# Altium footprint library Caps.TH.PcbLib: 50 footprints (part 1 of 4)
Each footprint in its own frame and in the unit in brackets; x right, y up, seen from the top. Pads: shape width x height; smd on the part's side, far side on the other; paste and mask are expansions set on the pad; w line width, h text height; cw(c..) or ccw(c..) is an arc to the next point about the centre after c.
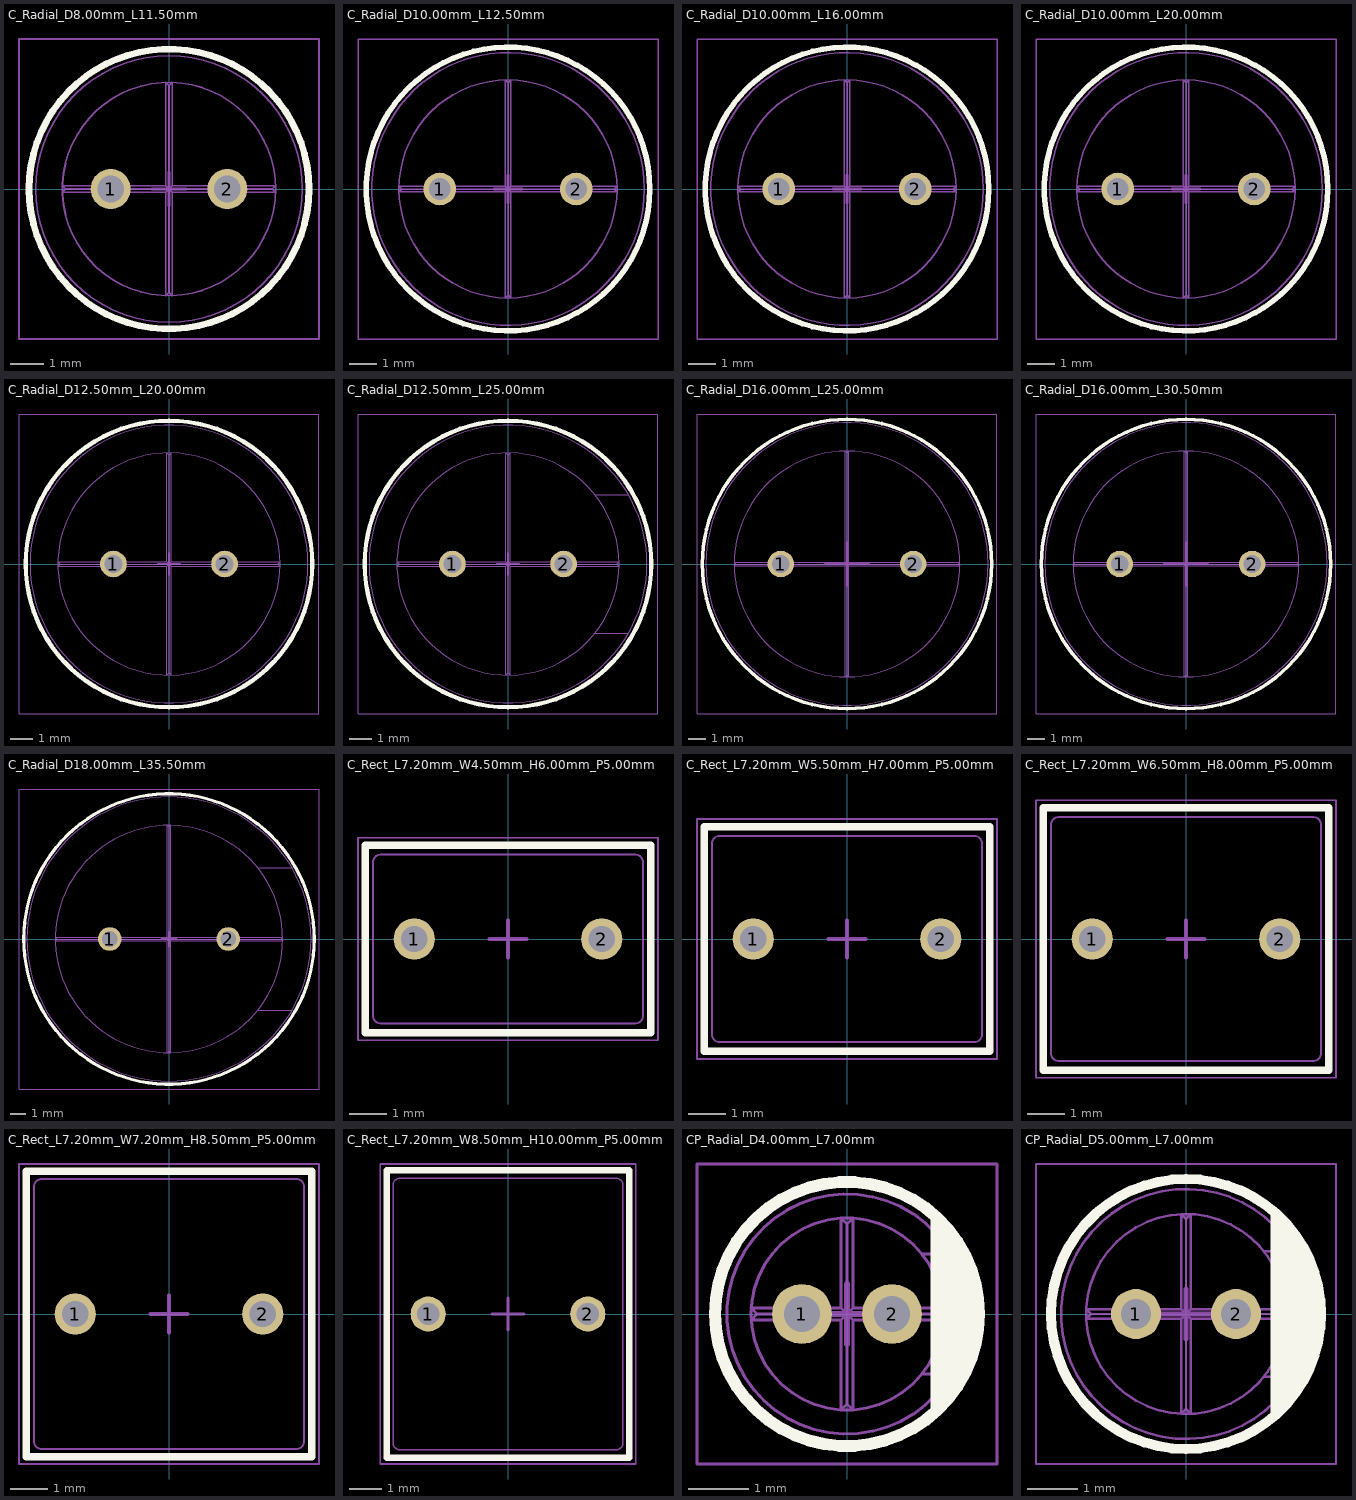
[diagram p0: the footprints below, top view; thin cyan lines are the x and y axes]

## C_Radial_D8.00mm_L11.50mm [mm] "Radial Capacitor, Diameter 8.00mm, Length 11.50mm, Pitch 3.50mm"
height 11.5
pads (2):
  round 1.2 hole 0.8: 1(-1.75,0) 2(1.75,0)
Top Overlay:
  circle w0.2: c0,0 r4.2
Mechanical 1:
  circle w0.05: c0,0 r4
  circle w0.05: c0,0 r3.2
  lines w0.05: -3.1,0 3.1,0 ; -3.1,0 -3.198,0.1 -0.1,0.1 ; -3.1,0 -3.198,-0.1 -0.1,-0.1 ; -0.1,-0.1 0.1,0.1 ; -0.1,-0.1 -0.1,-3.198 0,-3.1 ; -0.1,0.1 -0.1,3.198 0,3.1 ; -0.1,0.1 0.1,-0.1 ; 0,-3.1 0,3.1 ; 0,-3.1 0.1,-3.198 0.1,-0.1 ; 0,3.1 0.1,3.198 0.1,0.1 ; 0.1,-0.1 3.198,-0.1 3.1,0 ; 0.1,0.1 3.198,0.1 3.1,0
Mechanical 15:
  lines w0.05: -4.5,-4.5 -4.5,4.5 4.5,4.5 4.5,-4.5 -4.5,-4.5
  lines w0.1: -0.5,0 0.5,0 ; 0,-0.5 0,0.5
3D body "Capacitor_Unpolarised_Radial_D8.00mm_L11.50mm_P3.5mm.STEP": height 11.5, standoff -3.2, extent -4,-4 4,4

## C_Radial_D10.00mm_L12.50mm [mm] "Radial Capacitor, Diameter 10.00mm, Length 12.50mm, Pitch 5.00mm"
height 12.5
pads (2):
  round 1.2 hole 0.8: 1(-2.5,0) 2(2.5,0)
Top Overlay:
  circle w0.2: c0,0 r5.2
Mechanical 1:
  circle w0.05: c0,0 r5
  circle w0.05: c0,0 r4
  lines w0.05: -3.9,0 3.9,0 ; -3.9,0 -3.999,0.1 -0.1,0.1 ; -3.9,0 -3.999,-0.1 -0.1,-0.1 ; -0.1,-0.1 0.1,0.1 ; -0.1,-0.1 -0.1,-3.999 0,-3.9 ; -0.1,0.1 -0.1,3.999 0,3.9 ; -0.1,0.1 0.1,-0.1 ; 0,-3.9 0,3.9 ; 0,-3.9 0.1,-3.999 0.1,-0.1 ; 0,3.9 0.1,3.999 0.1,0.1 ; 0.1,-0.1 3.999,-0.1 3.9,0 ; 0.1,0.1 3.999,0.1 3.9,0
Mechanical 15:
  lines w0.05: -5.5,-5.5 -5.5,5.5 5.5,5.5 5.5,-5.5 -5.5,-5.5
  lines w0.1: -0.5,0 0.5,0 ; 0,-0.5 0,0.5
3D body "Capacitor_Unpolarised_Radial_D10.00mm_L12.50mm_P5.0mm.STEP": height 12.5, standoff -3.2, extent -4.994,-5 4.994,5

## C_Radial_D10.00mm_L16.00mm [mm] "Radial Capacitor, Diameter 10.00mm, Length 16.00mm, Pitch 5.00mm"
height 16
pads (2):
  round 1.2 hole 0.8: 1(-2.5,0) 2(2.5,0)
Top Overlay:
  circle w0.2: c0,0 r5.2
Mechanical 1:
  circle w0.05: c0,0 r5
  circle w0.05: c0,0 r4
  lines w0.05: -3.9,0 3.9,0 ; -3.9,0 -3.999,0.1 -0.1,0.1 ; -3.9,0 -3.999,-0.1 -0.1,-0.1 ; -0.1,-0.1 0.1,0.1 ; -0.1,-0.1 -0.1,-3.999 0,-3.9 ; -0.1,0.1 -0.1,3.999 0,3.9 ; -0.1,0.1 0.1,-0.1 ; 0,-3.9 0,3.9 ; 0,-3.9 0.1,-3.999 0.1,-0.1 ; 0,3.9 0.1,3.999 0.1,0.1 ; 0.1,-0.1 3.999,-0.1 3.9,0 ; 0.1,0.1 3.999,0.1 3.9,0
Mechanical 15:
  lines w0.05: -5.5,-5.5 -5.5,5.5 5.5,5.5 5.5,-5.5 -5.5,-5.5
  lines w0.1: -0.5,0 0.5,0 ; 0,-0.5 0,0.5
3D body "Capacitor_Unpolarised_Radial_D10.00mm_L16.00mm_P5.0mm.STEP": height 16, standoff -3.2, extent -4.994,-5 4.994,5

## C_Radial_D10.00mm_L20.00mm [mm] "Radial Capacitor, Diameter 10.00mm, Length 20.00mm, Pitch 5.00mm"
height 20
pads (2):
  round 1.2 hole 0.8: 1(-2.5,0) 2(2.5,0)
Top Overlay:
  circle w0.2: c0,0 r5.2
Mechanical 1:
  circle w0.05: c0,0 r4
  circle w0.05: c0,0 r5
  lines w0.05: -3.9,0 -3.999,-0.1 -0.1,-0.1 ; -3.9,0 -3.999,0.1 -0.1,0.1 ; -3.9,0 3.9,0 ; -0.1,-0.1 -0.1,-3.999 0,-3.9 ; -0.1,-0.1 0.1,0.1 ; -0.1,0.1 0.1,-0.1 ; -0.1,0.1 -0.1,3.999 0,3.9 ; 0,-3.9 0.1,-3.999 0.1,-0.1 ; 0,-3.9 0,3.9 ; 0,3.9 0.1,3.999 0.1,0.1 ; 0.1,-0.1 3.999,-0.1 3.9,0 ; 0.1,0.1 3.999,0.1 3.9,0
Mechanical 15:
  lines w0.05: -5.5,-5.5 5.5,-5.5 5.5,5.5 -5.5,5.5 -5.5,-5.5
  lines w0.1: -0.5,0 0.5,0 ; 0,-0.5 0,0.5
3D body "Capacitor_Unpolarised_Radial_D10.00mm_L20.00mm_P5.0mm.STEP": height 20, standoff -3.2, extent -4.994,-5 4.994,5

## C_Radial_D12.50mm_L20.00mm [mm] "Radial Capacitor, Diameter 12.50mm, Length 20.00mm, Pitch 5.00mm"
height 20
pads (2):
  round 1.2 hole 0.8: 1(-2.5,0) 2(2.5,0)
Top Overlay:
  circle w0.2: c0,0 r6.45
Mechanical 1:
  circle w0.05: c0,0 r6.25
  circle w0.05: c0,0 r5
  lines w0.05: -4.9,0 4.9,0 ; -4.9,0 -4.999,0.1 -0.1,0.1 ; -4.9,0 -4.999,-0.1 -0.1,-0.1 ; -0.1,-0.1 0.1,0.1 ; -0.1,-0.1 -0.1,-4.999 0,-4.9 ; -0.1,0.1 -0.1,4.999 0,4.9 ; -0.1,0.1 0.1,-0.1 ; 0,-4.9 0,4.9 ; 0,-4.9 0.1,-4.999 0.1,-0.1 ; 0,4.9 0.1,4.999 0.1,0.1 ; 0.1,-0.1 4.999,-0.1 4.9,0 ; 0.1,0.1 4.999,0.1 4.9,0
Mechanical 15:
  lines w0.05: -6.75,-6.75 6.75,-6.75 6.75,6.75 -6.75,6.75 -6.75,-6.75
  lines w0.1: -0.5,0 0.5,0 ; 0,-0.5 0,0.5
3D body "Capacitor_Unpolarised_Radial_D12.50mm_L20.00mm_P5.0mm.STEP": height 20, standoff -3.2, extent -6.238,-6.25 6.238,6.25

## C_Radial_D12.50mm_L25.00mm [mm] "Radial Capacitor, Diameter 12.50mm, Length 25.00mm, Pitch 5.00mm"
height 25
pads (2):
  round 1.2 hole 0.8: 1(-2.5,0) 2(2.5,0)
Top Overlay:
  circle w0.2: c0,0 r6.45
Mechanical 1:
  circle w0.05: c0,0 r6.25
  circle w0.05: c0,0 r5
  lines w0.05: 3.903,-3.125 5.049,-3.125 5.413,-3.125 ; 3.903,3.125 5.049,3.125 5.413,3.125 ; -4.9,0 4.9,0 ; -4.9,0 -4.999,0.1 -0.1,0.1 ; -4.9,0 -4.999,-0.1 -0.1,-0.1 ; -0.1,-0.1 0.1,0.1 ; -0.1,-0.1 -0.1,-4.999 0,-4.9 ; -0.1,0.1 -0.1,4.999 0,4.9 ; -0.1,0.1 0.1,-0.1 ; 0,-4.9 0,4.9 ; 0,-4.9 0.1,-4.999 0.1,-0.1 ; 0,4.9 0.1,4.999 0.1,0.1 ; 0.1,-0.1 4.999,-0.1 4.9,0 ; 0.1,0.1 4.999,0.1 4.9,0
Mechanical 15:
  lines w0.05: -6.75,-6.75 6.75,-6.75 6.75,6.75 -6.75,6.75 -6.75,-6.75
  lines w0.1: -0.5,0 0.5,0 ; 0,-0.5 0,0.5
3D body "Capacitor_Unpolarised_Radial_D12.50mm_L25.00mm_P5.0mm.STEP": height 25, standoff -3.2, extent -6.25,-6.25 6.25,6.25

## C_Radial_D16.00mm_L25.00mm [mm] "Radial Capacitor, Diameter 16.00mm, Length 25.00mm, Pitch 7.50mm"
height 25
pads (2):
  round 1.5 hole 1: 1(-3.75,0) 2(3.75,0)
Top Overlay:
  circle w0.2: c0,0 r8.2
Mechanical 1:
  circle w0.05: c0,0 r8
  circle w0.05: c0,0 r6.4
  lines w0.05: -6.3,0 6.3,0 ; -6.3,0 -6.399,0.1 -0.1,0.1 ; -6.3,0 -6.399,-0.1 -0.1,-0.1 ; -0.1,-0.1 0.1,0.1 ; -0.1,-0.1 -0.1,-6.399 0,-6.3 ; -0.1,0.1 -0.1,6.399 0,6.3 ; -0.1,0.1 0.1,-0.1 ; 0,-6.3 0,6.3 ; 0,-6.3 0.1,-6.399 0.1,-0.1 ; 0,6.3 0.1,6.399 0.1,0.1 ; 0.1,-0.1 6.399,-0.1 6.3,0 ; 0.1,0.1 6.399,0.1 6.3,0
Mechanical 15:
  lines w0.05: -8.5,-8.5 -8.5,8.5 8.5,8.5 8.5,-8.5 -8.5,-8.5
  lines w0.1: -1.25,0 1.25,0 ; 0,-1.25 0,1.25
3D body "Capacitor_Unpolarised_Radial_D16.00mm_L25.00mm_P7.5mm.STEP": height 25, standoff -3.2, extent -7.99,-8 7.99,8

## C_Radial_D16.00mm_L30.50mm [mm] "Radial Capacitor, Diameter 16.00mm, Length 30.50mm, Pitch 7.50mm"
height 30.5
pads (2):
  round 1.5 hole 1: 1(-3.75,0) 2(3.75,0)
Top Overlay:
  circle w0.2: c0,0 r8.2
Mechanical 1:
  circle w0.05: c0,0 r8
  circle w0.05: c0,0 r6.4
  lines w0.05: -6.3,0 6.3,0 ; -6.3,0 -6.399,0.1 -0.1,0.1 ; -6.3,0 -6.399,-0.1 -0.1,-0.1 ; -0.1,-0.1 0.1,0.1 ; -0.1,-0.1 -0.1,-6.399 0,-6.3 ; -0.1,0.1 -0.1,6.399 0,6.3 ; -0.1,0.1 0.1,-0.1 ; 0,-6.3 0,6.3 ; 0,-6.3 0.1,-6.399 0.1,-0.1 ; 0,6.3 0.1,6.399 0.1,0.1 ; 0.1,-0.1 6.399,-0.1 6.3,0 ; 0.1,0.1 6.399,0.1 6.3,0
Mechanical 15:
  lines w0.05: -8.5,-8.5 -8.5,8.5 8.5,8.5 8.5,-8.5 -8.5,-8.5
  lines w0.1: -1.25,0 1.25,0 ; 0,-1.25 0,1.25
3D body "Capacitor_Unpolarised_Radial_D16.00mm_L30.50mm_P7.5mm.STEP": height 30.5, standoff -3.2, extent -7.99,-8 7.99,8

## C_Radial_D18.00mm_L35.50mm [mm] "Radial Capacitor, Diameter 18.00mm, Length 35.50mm, Pitch 7.50mm"
height 35.5
pads (2):
  round 1.5 hole 1: 1(-3.75,0) 2(3.75,0)
Top Overlay:
  circle w0.2: c0,0 r9.2
Mechanical 1:
  circle w0.05: c0,0 r9
  circle w0.05: c0,0 r7.2
  lines w0.05: 5.62,-4.5 7.27,-4.5 7.794,-4.5 ; 5.62,4.5 7.27,4.5 7.794,4.5 ; -7.1,0 7.1,0 ; -7.1,0 -7.199,0.1 -0.1,0.1 ; -7.1,0 -7.199,-0.1 -0.1,-0.1 ; -0.1,-0.1 0.1,0.1 ; -0.1,-0.1 -0.1,-7.199 0,-7.1 ; -0.1,0.1 -0.1,7.199 0,7.1 ; -0.1,0.1 0.1,-0.1 ; 0,-7.1 0,7.1 ; 0,-7.1 0.1,-7.199 0.1,-0.1 ; 0,7.1 0.1,7.199 0.1,0.1 ; 0.1,-0.1 7.199,-0.1 7.1,0 ; 0.1,0.1 7.199,0.1 7.1,0
Mechanical 15:
  lines w0.05: -9.5,-9.5 -9.5,9.5 9.5,9.5 9.5,-9.5 -9.5,-9.5
  lines w0.1: -0.5,0 0.5,0 ; 0,-0.5 0,0.5
3D body "Capacitor_Unpolarised_Radial_D18.00mm_L35.50mm_P7.5mm.STEP": height 35.5, standoff -3.2, extent -9,-9 9,9

## C_Rect_L7.20mm_W4.50mm_H6.00mm_P5.00mm [mm] "Rectangular Capacitor, Length 7.20mm, Width 4.50mm, Height 6.00mm, Pitch 5.00mm"
height 6
pads (2):
  round 1.1 hole 0.7: 1(-2.5,0) 2(2.5,0)
Top Overlay:
  lines w0.2: -3.8,-2.5 -3.8,2.5 3.8,2.5 3.8,-2.5 -3.8,-2.5
Mechanical 1:
  lines w0.05: -3.6,-2.05 ccw(c-3.4,-2.05) -3.4,-2.25 3.4,-2.25 ccw(c3.4,-2.05) 3.6,-2.05 3.6,2.05 ccw(c3.4,2.05) 3.4,2.25 -3.4,2.25 ccw(c-3.4,2.05) -3.6,2.05 -3.6,-2.05
Mechanical 15:
  lines w0.05: -4,-2.7 -4,2.7 4,2.7 4,-2.7 -4,-2.7
  lines w0.1: -0.5,0 0.5,0 ; 0,-0.5 0,0.5
3D body "Capacitor_Rectangle_L7.20mm_W4.50mm_H6.00mm_P5.00mm.STEP": height 6, standoff -3.2, extent -3.6,-2.25 3.6,2.25

## C_Rect_L7.20mm_W5.50mm_H7.00mm_P5.00mm [mm] "Rectangular Capacitor, Length 7.20mm, Width 5.50mm, Height 7.00mm, Pitch 5.00mm"
height 7
pads (2):
  round 1.1 hole 0.7: 1(-2.5,0) 2(2.5,0)
Top Overlay:
  lines w0.2: -3.8,-3 3.8,-3 3.8,3 -3.8,3 -3.8,-3
Mechanical 1:
  lines w0.05: -3.6,-2.55 ccw(c-3.4,-2.55) -3.4,-2.75 3.4,-2.75 ccw(c3.4,-2.55) 3.6,-2.55 3.6,2.55 ccw(c3.4,2.55) 3.4,2.75 -3.4,2.75 ccw(c-3.4,2.55) -3.6,2.55 -3.6,-2.55
Mechanical 15:
  lines w0.05: -4,-3.2 4,-3.2 4,3.2 -4,3.2 -4,-3.2
  lines w0.1: -0.5,0 0.5,0 ; 0,-0.5 0,0.5
3D body "Capacitor_Rectangle_L7.20mm_W5.50mm_H7.00mm_P5.00mm.STEP": height 7, standoff -3.2, extent -3.6,-2.75 3.6,2.75

## C_Rect_L7.20mm_W6.50mm_H8.00mm_P5.00mm [mm] "Rectangular Capacitor, Length 7.20mm, Width 6.50mm, Height 8.00mm, Pitch 5.00mm"
height 8
pads (2):
  round 1.1 hole 0.7: 1(-2.5,0) 2(2.5,0)
Top Overlay:
  lines w0.2: -3.8,-3.5 -3.8,3.5 3.8,3.5 3.8,-3.5 -3.8,-3.5
Mechanical 1:
  lines w0.05: -3.6,-3.05 ccw(c-3.4,-3.05) -3.4,-3.25 3.4,-3.25 ccw(c3.4,-3.05) 3.6,-3.05 3.6,3.05 ccw(c3.4,3.05) 3.4,3.25 -3.4,3.25 ccw(c-3.4,3.05) -3.6,3.05 -3.6,-3.05
Mechanical 15:
  lines w0.05: -4,-3.7 -4,3.7 4,3.7 4,-3.7 -4,-3.7
  lines w0.1: -0.5,0 0.5,0 ; 0,-0.5 0,0.5
3D body "Capacitor_Rectangle_L7.20mm_W6.50mm_H8.00mm_P5.00mm.STEP": height 8, standoff -3.2, extent -3.6,-3.25 3.6,3.25

## C_Rect_L7.20mm_W7.20mm_H8.50mm_P5.00mm [mm] "Rectangular Capacitor, Length 7.20mm, Width 7.20mm, Height 8.50mm, Pitch 5.00mm"
height 8.5
pads (2):
  round 1.1 hole 0.7: 1(-2.5,0) 2(2.5,0)
Top Overlay:
  lines w0.2: -3.8,-3.8 3.8,-3.8 3.8,3.8 -3.8,3.8 -3.8,-3.8
Mechanical 1:
  lines w0.05: -3.6,-3.4 ccw(c-3.4,-3.4) -3.4,-3.6 3.4,-3.6 ccw(c3.4,-3.4) 3.6,-3.4 3.6,3.4 ccw(c3.4,3.4) 3.4,3.6 -3.4,3.6 ccw(c-3.4,3.4) -3.6,3.4 -3.6,-3.4
Mechanical 15:
  lines w0.05: -4,-4 4,-4 4,4 -4,4 -4,-4
  lines w0.1: -0.5,0 0.5,0 ; 0,-0.5 0,0.5
3D body "Capacitor_Rectangle_L7.20mm_W7.20mm_H8.50mm_P5.00mm.STEP": height 8.5, standoff -3.2, extent -3.6,-3.6 3.6,3.6

## C_Rect_L7.20mm_W8.50mm_H10.00mm_P5.00mm [mm] "Rectangular Capacitor, Length 7.20mm, Width 8.50mm, Height 10.00mm, Pitch 5.00mm"
height 10
pads (2):
  round 1.1 hole 0.7: 1(-2.5,0) 2(2.5,0)
Top Overlay:
  lines w0.2: -3.8,-4.5 -3.8,4.5 3.8,4.5 3.8,-4.5 -3.8,-4.5
Mechanical 1:
  lines w0.05: -3.6,-4.05 ccw(c-3.4,-4.05) -3.4,-4.25 3.4,-4.25 ccw(c3.4,-4.05) 3.6,-4.05 3.6,4.05 ccw(c3.4,4.05) 3.4,4.25 -3.4,4.25 ccw(c-3.4,4.05) -3.6,4.05 -3.6,-4.05
Mechanical 15:
  lines w0.05: -4,-4.7 -4,4.7 4,4.7 4,-4.7 -4,-4.7
  lines w0.1: -0.5,0 0.5,0 ; 0,-0.5 0,0.5
3D body "Capacitor_Rectangle_L7.20mm_W8.50mm_H10.00mm_P5.00mm.STEP": height 10, standoff -3.2, extent -3.6,-4.25 3.6,4.25

## CP_Radial_D4.00mm_L7.00mm [mm] "Radial Capacitor, Diameter 4.00mm, Length 7.00mm, Pitch 1.50mm"
height 7
pads (2):
  round 1 hole 0.6: 1(-0.75,0) 2(0.75,0)
Top Overlay:
  circle w0.2: c0,0 r2.2
  region: 1.4,1.7 1.525,1.597 1.742,1.356 1.921,1.086 2.059,0.793 2.153,0.483 2.2,0.162 2.2,-0.162 2.153,-0.483 2.059,-0.793 1.921,-1.086 1.742,-1.356 1.525,-1.597 1.4,-1.7
Mechanical 1:
  circle w0.05: c0,0 r1.6
  circle w0.05: c0,0 r2
  lines w0.05: 1.249,-1 1.732,-1 ; 1.249,1 1.732,1 ; -1.5,0 1.5,0 ; -1.5,0 -1.597,-0.1 -0.1,-0.1 ; -1.5,0 -1.597,0.1 -0.1,0.1 ; -0.1,-0.1 -0.1,-1.597 0,-1.5 ; -0.1,-0.1 0.1,0.1 ; -0.1,0.1 0.1,-0.1 ; -0.1,0.1 -0.1,1.597 0,1.5 ; 0,-1.5 0,1.5 ; 0,-1.5 0.1,-1.597 0.1,-0.1 ; 0,1.5 0.1,1.597 0.1,0.1 ; 0.1,-0.1 1.597,-0.1 1.5,0 ; 0.1,0.1 1.597,0.1 1.5,0
Mechanical 15:
  lines w0.05: -2.5,-2.5 2.5,-2.5 2.5,2.5 -2.5,2.5 -2.5,-2.5
  lines w0.1: -0.5,0 0.5,0 ; 0,-0.5 0,0.5
3D body "Capacitor_Radial_D4.00mm_L7.00mm_P1.5mm.STEP": height 7, standoff -3.2, extent -1.995,-2 2,2

## CP_Radial_D5.00mm_L7.00mm [mm] "Radial Capacitor, Diameter 5.00mm, Length 7.00mm, Pitch 2.00mm"
height 7
pads (2):
  round 1 hole 0.6: 1(-1,0) 2(1,0)
Top Overlay:
  circle w0.2: c0,0 r2.7
  region: 1.699,2.099 1.855,1.972 2.126,1.676 2.35,1.344 2.523,0.981 2.641,0.598 2.7,0.201 2.7,-0.201 2.641,-0.598 2.523,-0.981 2.35,-1.344 2.126,-1.676 1.855,-1.972 1.699,-2.099
Mechanical 1:
  circle w0.05: c0,0 r2
  circle w0.05: c0,0 r2.5
  lines w0.05: 1.561,-1.25 2.019,-1.25 2.165,-1.25 ; 1.561,1.25 2.019,1.25 2.165,1.25 ; -1.9,0 -1.997,-0.1 -0.1,-0.1 ; -1.9,0 -1.997,0.1 -0.1,0.1 ; -1.9,0 1.9,0 ; -0.1,-0.1 -0.1,-1.997 0,-1.9 ; -0.1,-0.1 0.1,0.1 ; -0.1,0.1 0.1,-0.1 ; -0.1,0.1 -0.1,1.997 0,1.9 ; 0,-1.9 0.1,-1.997 0.1,-0.1 ; 0,-1.9 0,1.9 ; 0,1.9 0.1,1.997 0.1,0.1 ; 0.1,-0.1 1.997,-0.1 1.9,0 ; 0.1,0.1 1.997,0.1 1.9,0
Mechanical 15:
  lines w0.05: -3,-3 -3,3 3,3 3,-3 -3,-3
  lines w0.1: -0.5,0 0.5,0 ; 0,-0.5 0,0.5
3D body "Capacitor_Radial_D5.00mm_L7.00mm_P2.0mm.STEP": height 7, standoff -3.2, extent -2.5,-2.5 2.5,2.5